# EAGLE library part 24LC64 (library xmaker)
Microchip 64K I2C Serial EEPROM
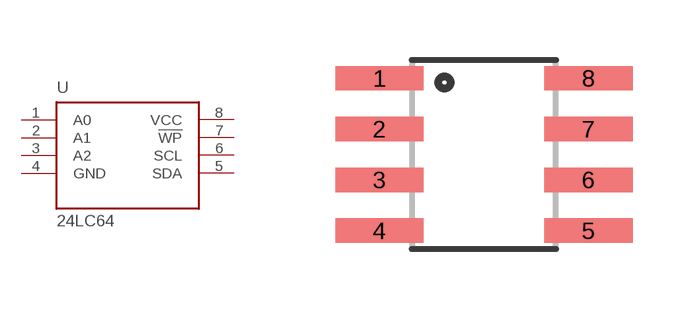
[diagram p13: symbol with the pads of SO08; footprint SO08]

Designator prefix -

## 24LC64SN  [SO08]
1  A0
2  A1
3  A2
4  GND
5  SDA
6  SCL
7  !WP
8  VCC

## Footprint SO08 (pad centres in mm)
Small Outline Package Fits JEDEC packages (narrow SOIC-8) (Copy from SFE Footprint Library.)
smd 2.21 x 0.61: 1 -2.616,1.905; 2 -2.616,0.635; 3 -2.616,-0.635; 4 -2.616,-1.905; 5 2.616,-1.905; 6 2.616,-0.635; 7 2.616,0.635; 8 2.616,1.905